# Altium schematic symbol library PCB_Footprint.SchLib: 121 symbols
Pins are listed as number, name and electrical type; pins without a type are passive.

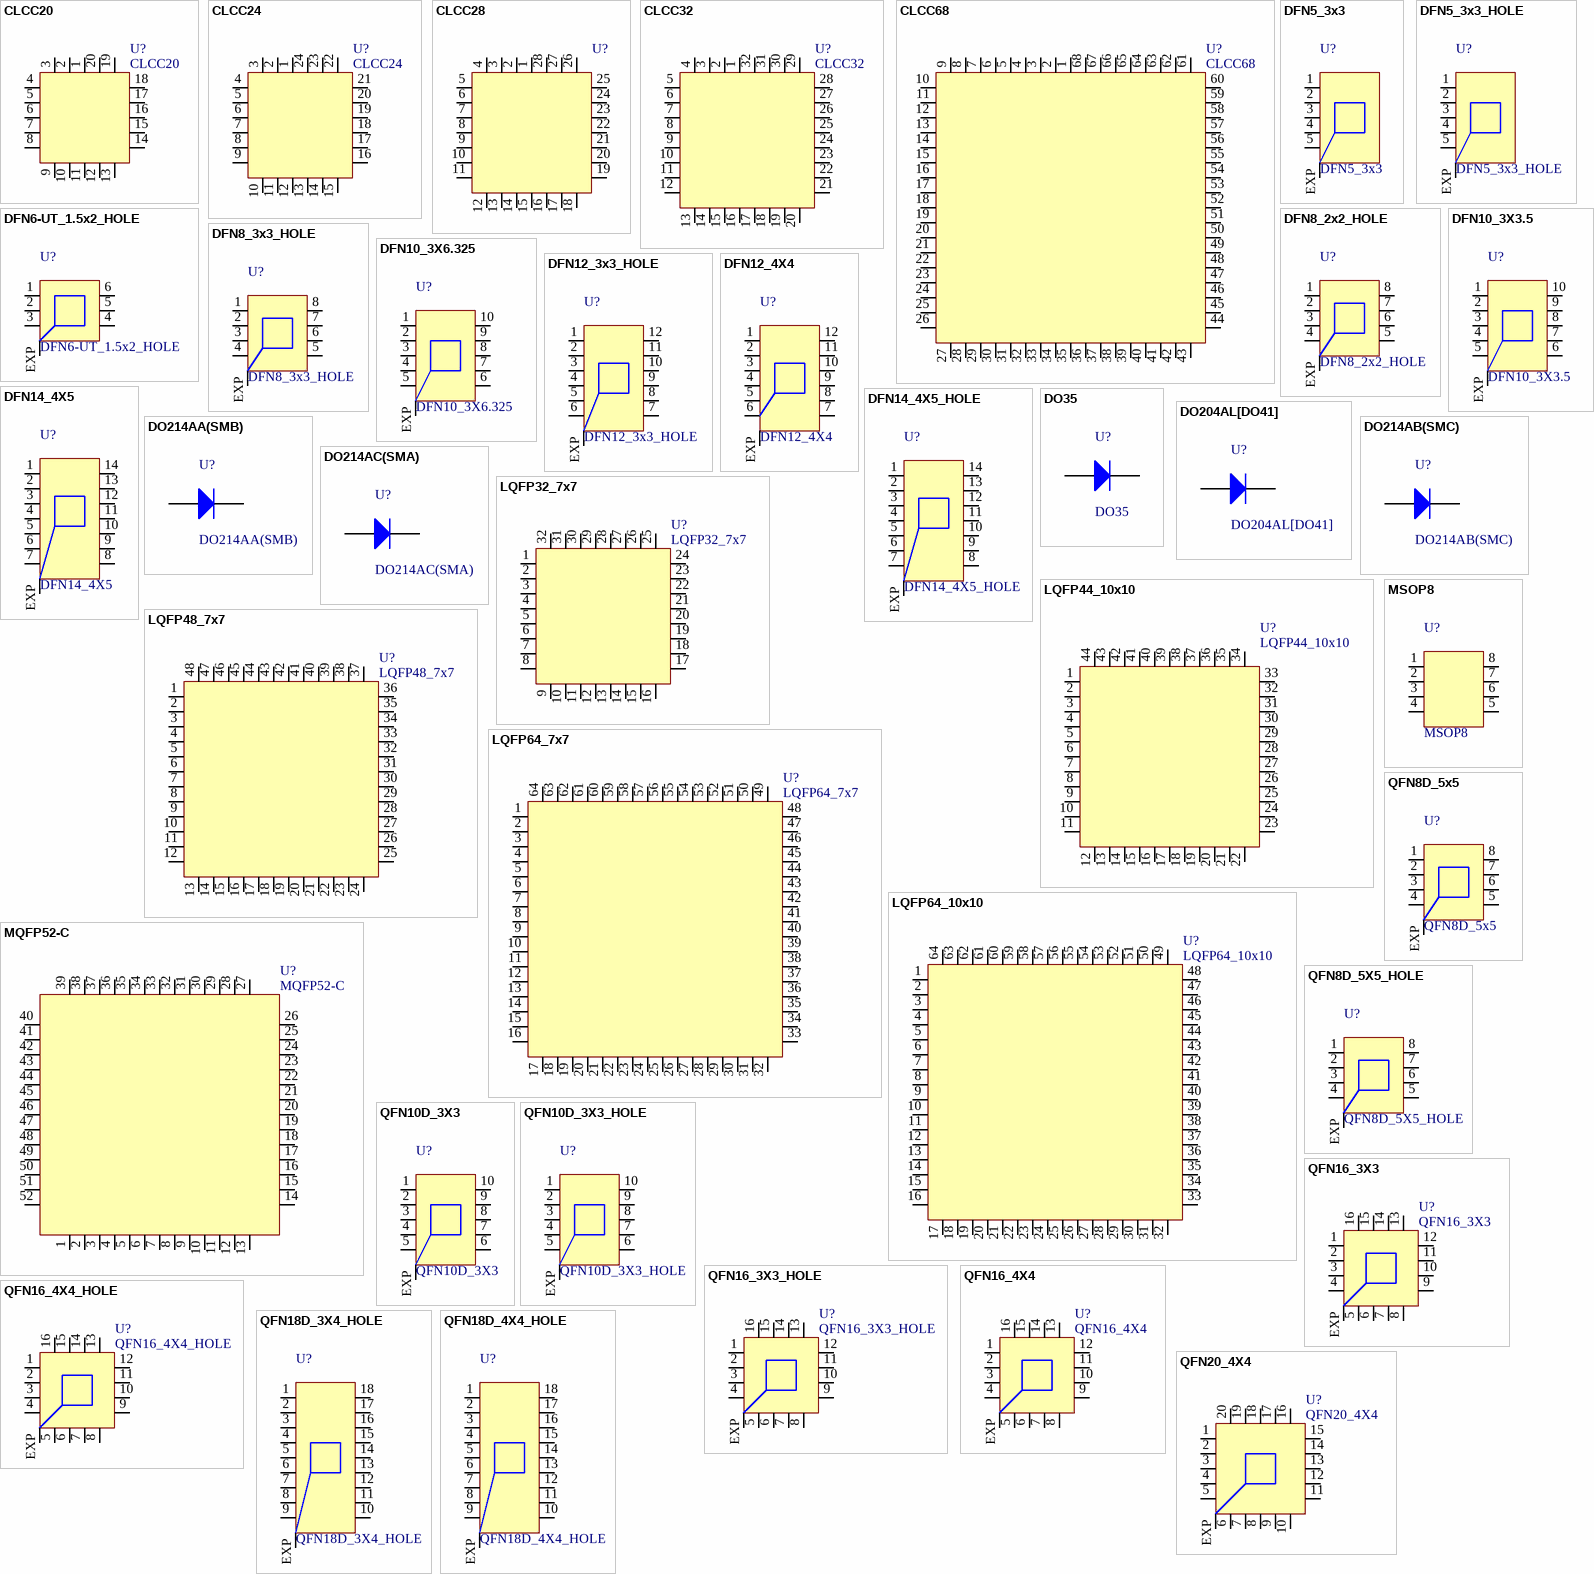
[diagram p0: symbols CLCC20 to QFN20_4X4]

## CLCC20
designator U?
Leadless Chip Carrier, 20-Leads, Body 8.89x8.89mm, Pitch 1.27mm, IPC Low Density
footprint LCC127P889X889X152-20 (Leadless Chip Carrier, 20-Leads, Body 8.89x8.89mm, Pitch 1.27mm, IPC Low Density)
pins: 1, 2, 3, 4, 5, 6, 7, 8, 9, 10, 11, 12, 13, 14, 15, 16, 17, 18, 19, 20

## CLCC24
designator U?
Leadless Chip Carrier, 24-Leads, Body 10.16x10.16mm, Pitch 1.27mm, IPC Low Density
footprint LCC127P1016X1016X152-24 (Leadless Chip Carrier, 24-Leads, Body 10.16x10.16mm, Pitch 1.27mm, IPC Low Density)
pins: 1, 2, 3, 4, 5, 6, 7, 8, 9, 10, 11, 12, 13, 14, 15, 16, 17, 18, 19, 20, 21, 22, 23, 24

## CLCC28
designator U?  (value not drawn)
Leadless Chip Carrier, 28-Leads, Body 11.68x11.68mm, Pitch 1.27mm, IPC Low Density
footprint LCC102P826X826X165-28N (LCC, 28-Pins, Body 8.26x8.26mmx1.65mm, Pitch 1.02mm, IPC Medium Density)
pins: 1, 2, 3, 4, 5, 6, 7, 8, 9, 10, 11, 12, 13, 14, 15, 16, 17, 18, 19, 20, 21, 22, 23, 24, 25, 26, 27, 28

## CLCC32
designator U?
Leadless Chip Carrier, 32-Leads, Body 10.67x10.67mm, Pitch 1.02mm, IPC Low Density
footprint LCC102P1067X1067X215-32 (Leadless Chip Carrier, 32-Leads, Body 10.67x10.67mm, Pitch 1.02mm, IPC Low Density)
pins: 1, 2, 3, 4, 5, 6, 7, 8, 9, 10, 11, 12, 13, 14, 15, 16, 17, 18, 19, 20, 21, 22, 23, 24, 25, 26, 27, 28, 29, 30, 31, 32

## CLCC68
designator U?
Leadless Chip Carrier, 68-Leads, Body 24.1x24.1mm, Pitch 1.27mm, IPC Low Density
footprint LCC127P2410X2410X203-68 (Leadless Chip Carrier, 68-Leads, Body 24.1x24.1mm, Pitch 1.27mm, IPC Low Density)
pins: 1, 2, 3, 4, 5, 6, 7, 8, 9, 10, 11, 12, 13, 14, 15, 16, 17, 18, 19, 20, 21, 22, 23, 24, 25, 26, 27, 28, 29, 30, 31, 32, 33, 34, 35, 36, 37, 38, 39, 40, 41, 42, 43, 44, 45, 46, 47, 48, 49, 50, 51, 52, 53, 54, 55, 56, 57, 58, 59, 60, 61, 62, 63, 64, 65, 66, 67, 68

## DFN5_3x3
designator U?
DFN, 5-Leads, Body 3x3x0.95mm, Pitch 0.5mm, Hole in exposed pad
footprint DFN50P300X300x95-5 (DFN, 5-Leads, Body 3x3x0.95mm, Pitch 0.5mm)
pins: 1, 2, 3, 4, 5, EXP

## DFN5_3x3_HOLE
designator U?
DFN, 5-Leads, Body 3x3x0.95mm, Pitch 0.5mm, Hole in exposed pad
footprint DFN50P300X300x95-5_HOLE (DFN, 5-Leads, Body 3x3x0.95mm, Pitch 0.5mm, Hole in exposed pad)
pins: 1, 2, 3, 4, 5, EXP

## DFN6-UT_1.5x2_HOLE
designator U?
DFN, 6-Leads, Body 1.5x2x0.43mm, Pitch 0.5mm, Hole in exposed pad
footprint DFN50P150X200X43-6_HOLE (DFN, 6-Leads, Body 1.5x2x0.43mm, Pitch 0.5mm, Hole in exposed pad)
pins: 1, 2, 3, 4, 5, 6, EXP

## DFN8_2x2_HOLE
designator U?
DFN, 8-Leads, Body 2x2x0.76mm, Pitch 0.5mm, Hole in exposed pad
footprint DFN50P200X200x76-8_HOLE (DFN, 8-Leads, Body 2x2x0.76mm, Pitch 0.5mm, Hole in exposed pad)
pins: 1, 2, 3, 4, 5, 6, 7, 8, EXP

## DFN8_3x3_HOLE
designator U?
DFN, 8-Leads, Body 3x3x0.75mm, Pitch 0.5mm, Hole in exposed pad
footprint DFN50P300X300x75-8_HOLE (DFN, 8-Leads, Body 3x3x0.75mm, Pitch 0.5mm, Hole in exposed pad)
pins: 1, 2, 3, 4, 5, 6, 7, 8, EXP

## DFN10_3X3.5
designator U?
DFN, 2x5-Leads, Body 3x6.325x0.95mm, Pitch 0.5mm
footprint DFN55P300X350x90-10 (DFN, 10-Leads, Body 3x3.5x0.9mm, Pitch 0.55mm)
pins: 1, 2, 3, 4, 5, 6, 7, 8, 9, 10, EXP

## DFN10_3X6.325
designator U?
DFN, 2x5-Leads, Body 3x6.325x0.95mm, Pitch 0.5mm
footprint DFN50P300X632x95-10 (DFN, 2x5-Leads, Body 3x6.325x0.95mm, Pitch 0.5mm)
pins: 1, 2, 3, 4, 5, 6, 7, 8, 9, 10, EXP

## DFN12_3x3_HOLE
designator U?
DFN, 12-Leads, Body 3.0x3x0.75mm, Pitch 0.45mm, Hole in exposed pad
footprint DFN45P300X300X75-12_HOLE (DFN, 12-Leads, Body 3.0x3x0.75mm, Pitch 0.45mm, Hole in exposed pad)
pins: 1, 2, 3, 4, 5, 6, 7, 8, 9, 10, 11, 12, EXP

## DFN12_4X4
designator U?
QFN, 12-Leads, dual, Body 4x4x0.9mm, Pitch 0.5mm
footprint DFN50P400X400X90-12 (QFN, 12-Leads, dual, Body 4x4x0.9mm, Pitch 0.5mm)
pins: 1, 2, 3, 4, 5, 6, 7, 8, 9, 10, 11, 12, EXP

## DFN14_4X5
designator U?
QFN, 14-Leads, dual, Body 4x5x2.55mm, Pitch 0.5mm
footprint DFN50P400X500X255-14 (QFN, 14-Leads, dual, Body 4x5x2.55mm, Pitch 0.5mm)
pins: 1, 2, 3, 4, 5, 6, 7, 8, 9, 10, 11, 12, 13, 14, EXP

## DFN14_4X5_HOLE
designator U?
QFN, 14-Leads, dual, Body 4x5x2.55mm, Pitch 0.5mm, Hole in exposed pad
footprint DFN50P400X500X255-14_HOLE (QFN, 14-Leads, dual, Body 4x5x2.55mm, Pitch 0.5mm, Hole in exposed pad)
pins: 1, 2, 3, 4, 5, 6, 7, 8, 9, 10, 11, 12, 13, 14, EXP

## DO35
designator U?
Diode, Axial; Body 3.9 x 1.9 mm (LxDia. max), Lead Dia. 0.53 mm (max)
footprint DO35 (Diode, Axial; Body 3.9 x 1.9 mm (LxDia. max), Lead Dia. 0.53 mm (max))
pins: 1 K, 2 A

## DO204AL[DO41]
designator U?
Diode, Axial; Body 5.2x2.7mm (LxDia. max), Lead Dia. 0.86 mm (max)
footprint DO204AL[DO41] (Diode, Axial; Body 5.2 x 2.7 mm (LxDia. max), Lead Dia. 0.86 mm (max))
pins: 1 K, 2 A

## DO214AA(SMB)
designator U?
DO-214-AA/SMB; 2 C-Bend Leads; Body 5.3x3.6mm, inc. leads (LxW)
footprint DO214AA(SMB) (DO-214-AA/SMB; 2 C-Bend Leads; Body 5.3 x 3.6 mm, inc. leads (LxW))
pins: 1 K, 2 A

## DO214AB(SMC)
designator U?
DO-214-AB/SMC; 2 C-Bend Leads; Body  8.0 x 6.2 mm, inc. leads (LxW)
footprint DO214AB(SMC) (DO-214-AB/SMC; 2 C-Bend Leads; Body  8.0 x 6.2 mm, inc. leads (LxW))
pins: 1 K, 2 A

## DO214AC(SMA)
designator U?
DO-214-AC/SMA; 2 C-Bend Leads; Body 5.0 x 2.7 mm, inc. leads (LxW)
footprint DO214AC(SMA) (DO-214-AC/SMA; 2 C-Bend Leads; Body 5.0 x 2.7 mm, inc. leads (LxW))
pins: 1 K, 2 A

## LQFP32_7x7
designator U?
Thin QFP, 32-Leads, Body 7x7mm, Pitch 0.8mm, IPC Low Density
footprint LQFP32_7x7 (Thin QFP, 32-Leads, Body 7x7mm, Pitch 0.8mm, IPC Low Density)
pins: 1, 2, 3, 4, 5, 6, 7, 8, 9, 10, 11, 12, 13, 14, 15, 16, 17, 18, 19, 20, 21, 22, 23, 24, 25, 26, 27, 28, 29, 30, 31, 32

## LQFP44_10x10
designator U?  (no BOM)
Thin QFP, 64-Leads, Body 10x10mm, Pitch 0.8mm, IPC Low Density
footprint LQFP44_10x10 (Thin QFP, 44-Leads, Body 10x10mm, Pitch 0.8mm, IPC Low Density)
pins: 1, 2, 3, 4, 5, 6, 7, 8, 9, 10, 11, 12, 13, 14, 15, 16, 17, 18, 19, 20, 21, 22, 23, 24, 25, 26, 27, 28, 29, 30, 31, 32, 33, 34, 35, 36, 37, 38, 39, 40, 41, 42, 43, 44

## LQFP48_7x7
designator U?
LQFP, 48-Leads, Body 7x7mm, Pitch 0.5mm, IPC Low Density
footprint LQFP48_7x7 (LQFP, 48-Leads, Body 7x7mm, Pitch 0.5mm, IPC Low Density)
pins: 1, 2, 3, 4, 5, 6, 7, 8, 9, 10, 11, 12, 13, 14, 15, 16, 17, 18, 19, 20, 21, 22, 23, 24, 25, 26, 27, 28, 29, 30, 31, 32, 33, 34, 35, 36, 37, 38, 39, 40, 41, 42, 43, 44, 45, 46, 47, 48

## LQFP64_7x7
designator U?
Thin QFP, 64-Leads, Body 7x7mm, Pitch 0.4mm, IPC Low Density
footprint LQFP64_7x7 (Thin QFP, 64-Leads, Body 7x7mm, Pitch 0.4mm, IPC Low Density)
pins: 1, 2, 3, 4, 5, 6, 7, 8, 9, 10, 11, 12, 13, 14, 15, 16, 17, 18, 19, 20, 21, 22, 23, 24, 25, 26, 27, 28, 29, 30, 31, 32, 33, 34, 35, 36, 37, 38, 39, 40, 41, 42, 43, 44, 45, 46, 47, 48, 49, 50, 51, 52, 53, 54, 55, 56, 57, 58, 59, 60, 61, 62, 63, 64

## LQFP64_10x10
designator U?
Thin QFP, 64-Leads, Body 10x10mm, Pitch 0.5mm, IPC Low Density
footprint LQFP64_10x10 (Thin QFP, 64-Leads, Body 10x10mm, Pitch 0.5mm, IPC Low Density)
pins: 1, 2, 3, 4, 5, 6, 7, 8, 9, 10, 11, 12, 13, 14, 15, 16, 17, 18, 19, 20, 21, 22, 23, 24, 25, 26, 27, 28, 29, 30, 31, 32, 33, 34, 35, 36, 37, 38, 39, 40, 41, 42, 43, 44, 45, 46, 47, 48, 49, 50, 51, 52, 53, 54, 55, 56, 57, 58, 59, 60, 61, 62, 63, 64

## MQFP52-C
designator U?
MQFP, 52-Leads, with optical area, Body 14x14x2.67mm, Pitch 1.0mm
footprint MQFP52-C (MQFP, 52-Leads, with optical area, Body 14x14x2.67mm, Pitch 1.0mm)
pins: 1, 2, 3, 4, 5, 6, 7, 8, 9, 10, 11, 12, 13, 14, 15, 16, 17, 18, 19, 20, 21, 22, 23, 24, 25, 26, 27, 28, 29, 30, 31, 32, 33, 34, 35, 36, 37, 38, 39, 40, 41, 42, 43, 44, 45, 46, 47, 48, 49, 50, 51, 52

## MSOP8
designator U?
Shrink Small Outline; 8 Leads; Body Width 3mm; Pitch 0.65 mm
footprint MSOP65P590-8 (Shrink Small Outline; 8 Leads; Body Width 3 mm; Pitch 0.65 mm)
pins: 1, 2, 3, 4, 5, 6, 7, 8

## QFN8D_5x5
designator U?
QFN, 8-Leads, dual (depopulated 16pin quad), Body 5x5x0.9mm, Pitch 0.8mm
footprint QFND80P500X500X90-8 (QFN, 8-Leads, dual (depopulated 16pin quad), Body 5x5x0.9mm, Pitch 0.8mm)
pins: 1, 2, 3, 4, 5, 6, 7, 8, EXP

## QFN8D_5X5_HOLE
designator U?
QFN, 8-Leads, dual (depopulated 16pin quad), Body 5x5x0.9mm, Pitch 0.8mm, Hole in exposed pad
footprint QFND80P500X500X90-8_HOLE (QFN, 8-Leads, dual (depopulated 16pin quad), Body 5x5x0.9mm, Pitch 0.8mm, Hole in exposed pad)
pins: 1, 2, 3, 4, 5, 6, 7, 8, EXP

## QFN10D_3X3
designator U?
QFN, 10-Leads, dual, Body 3x3x0.65mm, Pitch 0.5mm
footprint QFND50P300X300x65-10 (QFN, 10-Leads, dual, Body 3x3x0.65mm, Pitch 0.5mm, Hole in exposed pad)
pins: 1, 2, 3, 4, 5, 6, 7, 8, 9, 10, EXP

## QFN10D_3X3_HOLE
designator U?
QFN, 10-Leads, dual, Body 3x3x0.65mm, Pitch 0.5mm, Hole in exposed pad
footprint QFND50P300X300x65-10_HOLE (QFN, 10-Leads, dual, Body 3x3x0.65mm, Pitch 0.5mm, Hole in exposed pad)
pins: 1, 2, 3, 4, 5, 6, 7, 8, 9, 10, EXP

## QFN16_3X3
designator U?
QFN, 16-Leads, Body 3x3x0.9mm, Pitch 0.5mm
footprint QFN50P300X300x100-16 (QFN, 16-Leads, quad, Body 3x3x1mm, Pitch 0.5mm, Hole in exposed pad)
pins: 1, 2, 3, 4, 5, 6, 7, 8, 9, 10, 11, 12, 13, 14, 15, 16, EXP

## QFN16_3X3_HOLE
designator U?
QFN, 16-Leads, Body 3x3x0.9mm, Pitch 0.5mm, Hole in exposed pad
footprint QFN50P300X300x100-16_HOLE (QFN, 16-Leads, quad, Body 3x3x1mm, Pitch 0.5mm, Hole in exposed pad)
pins: 1, 2, 3, 4, 5, 6, 7, 8, 9, 10, 11, 12, 13, 14, 15, 16, EXP

## QFN16_4X4
designator U?
QFN, 16-Leads, Body 4x4x0.9mm, Pitch 0.65mm
footprint QFN65P400X400x90-16 (QFN, 16-Leads, Body 4x4x0.9mm, Pitch 0.65mm)
pins: 1, 2, 3, 4, 5, 6, 7, 8, 9, 10, 11, 12, 13, 14, 15, 16, EXP

## QFN16_4X4_HOLE
designator U?
QFN, 16-Leads, Body 4x4x0.9mm, Pitch 0.65mm, Hole in exposed pad
footprint QFN65P400X400x90-16_HOLE (QFN, 16-Leads, Body 4x4x0.9mm, Pitch 0.65mm, Hole in exposed pad)
pins: 1, 2, 3, 4, 5, 6, 7, 8, 9, 10, 11, 12, 13, 14, 15, 16, EXP

## QFN18D_3X4_HOLE
designator U?
QFN, 18-Leads, dual, Body 3x4x0.9mm, Pitch 0.4mm, Hole in exposed pad
footprint QFND40P300X400x90-18_HOLE (QFN, 18-Leads, dual, Body 3x4x0.9mm, Pitch 0.4mm, Hole in exposed pad)
pins: 1, 2, 3, 4, 5, 6, 7, 8, 9, 10, 11, 12, 13, 14, 15, 16, 17, 18, EXP

## QFN18D_4X4_HOLE
designator U?
QFN, 18-Leads, dual, Body 4x4x0.97mm, Pitch 0.4mm, Hole in exposed pad
footprint QFND40P400X400x97-18_HOLE (QFN, 18-Leads, dual, Body 4x4x0.97mm, Pitch 0.4mm, Hole in exposed pad)
pins: 1, 2, 3, 4, 5, 6, 7, 8, 9, 10, 11, 12, 13, 14, 15, 16, 17, 18, EXP

## QFN20_4X4
designator U?
QFN, 20-Leads, Body 4x4x0.9mm, Pitch 0.5mm
footprint QFN50P400X400x90-20 (QFN, 20-Leads, Body 4x4x0.9mm, Pitch 0.5mm)
pins: 1, 2, 3, 4, 5, 6, 7, 8, 9, 10, 11, 12, 13, 14, 15, 16, 17, 18, 19, 20, EXP

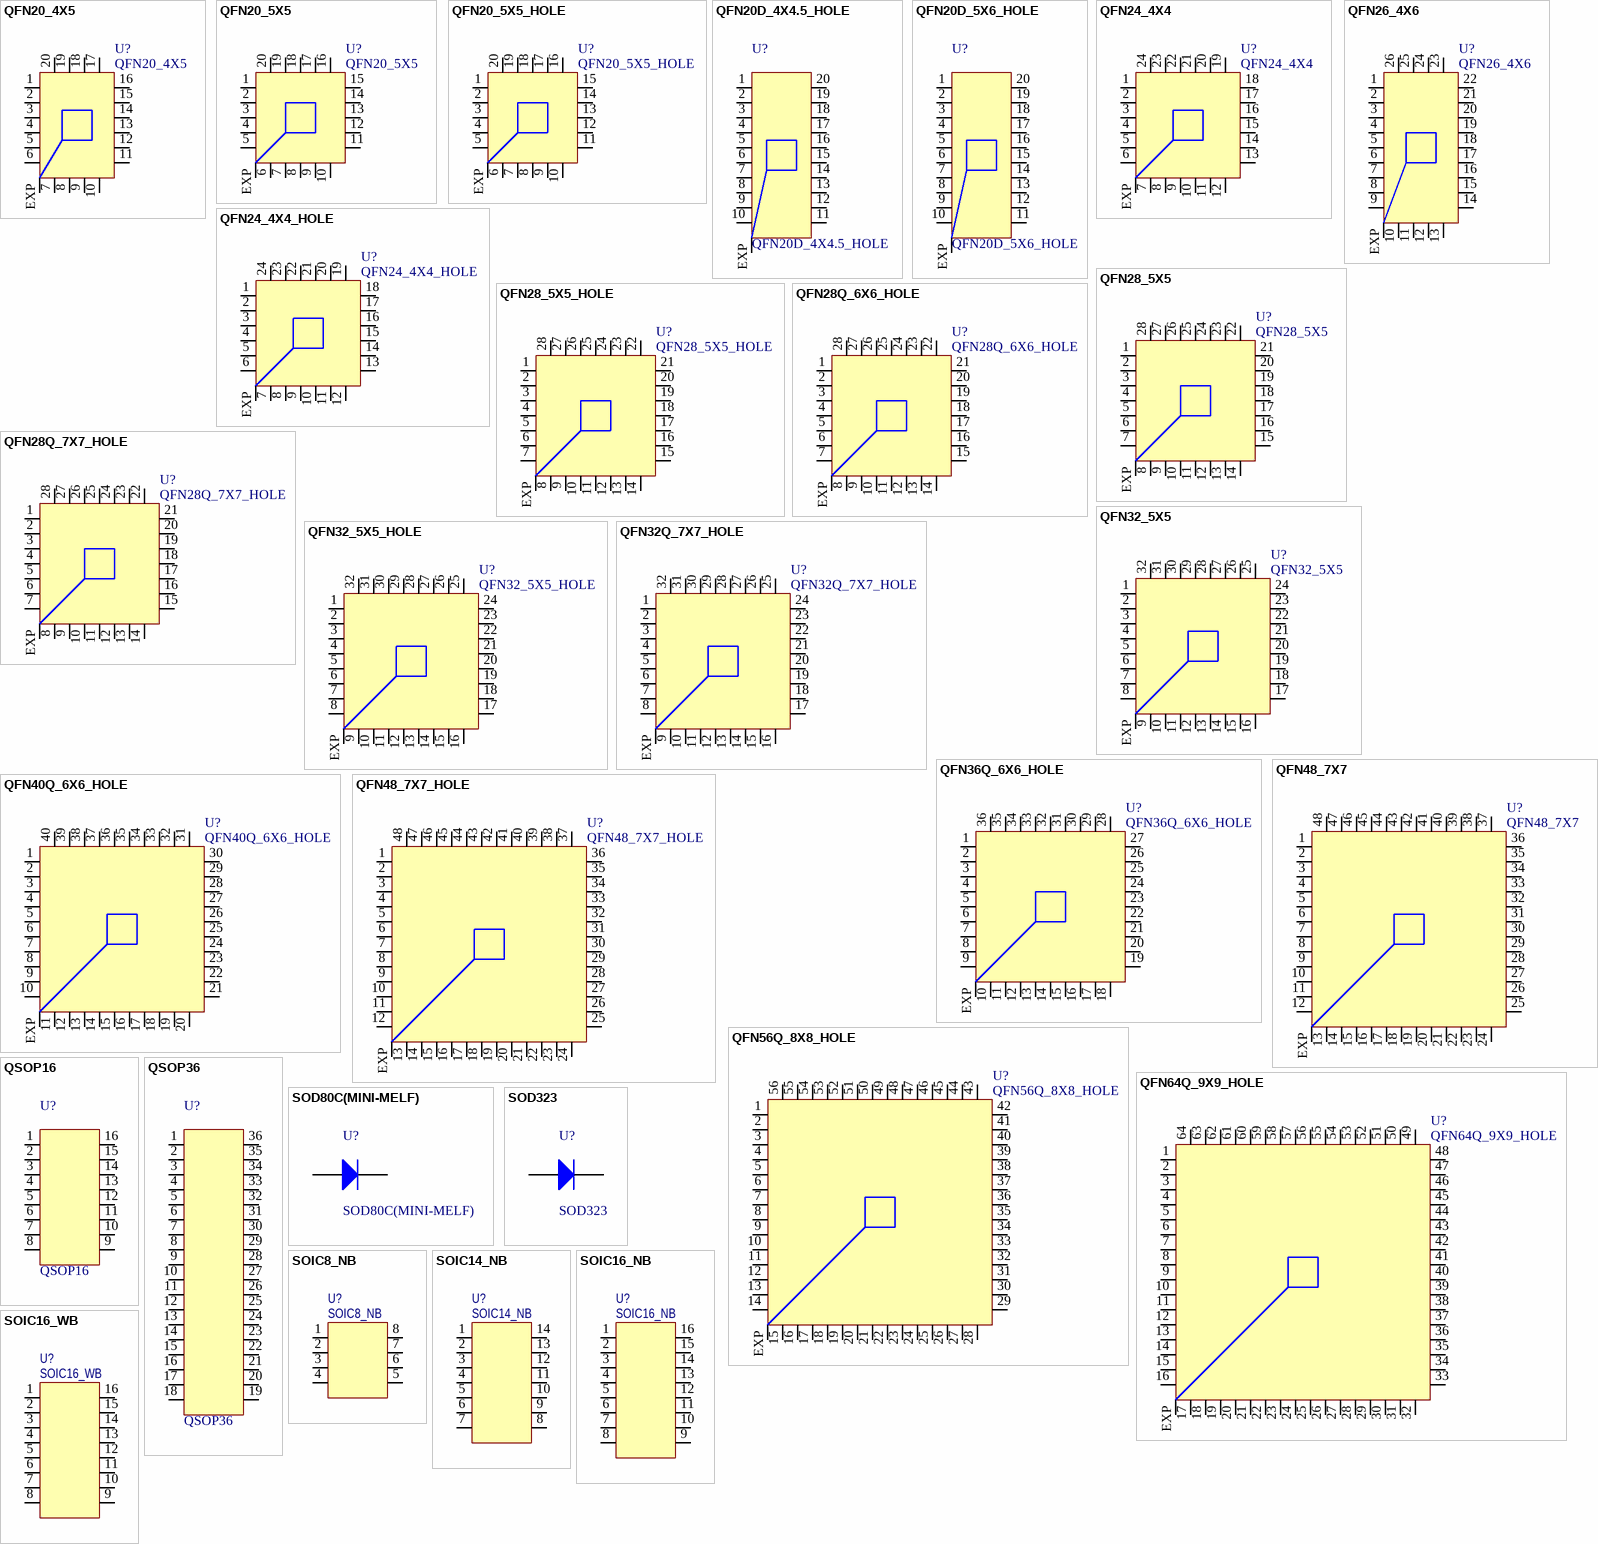
[diagram p1: symbols QFN20_4X5 to SOIC16_WB]

## QFN20_4X5
designator U?
QFN, 20-Leads, Body 4x5x0.85mm, Pitch 0.5mm
footprint QFN50P400X500x85-20 (QFN, 20-Leads, Body 4x5x0.9mm, Pitch 0.5mm)
pins: 1, 2, 3, 4, 5, 6, 7, 8, 9, 10, 11, 12, 13, 14, 15, 16, 17, 18, 19, 20, EXP

## QFN20_5X5
designator U?
QFN, 20-Leads, quad, Body 5x5x0.9mm, Pitch 0.65mm
footprint QFN65P500X500x90-20 (QFN, 20-Leads, quad, Body 5x5x0.9mm, Pitch 0.65mm)
pins: 1, 2, 3, 4, 5, 6, 7, 8, 9, 10, 11, 12, 13, 14, 15, 16, 17, 18, 19, 20, EXP

## QFN20_5X5_HOLE
designator U?
QFN, 20-Leads, quad, Body 5x5x0.9mm, Pitch 0.65mm, Hole in exposed pad
footprint QFN65P500X500x90-20_HOLE (QFN, 20-Leads, quad, Body 5x5x0.9mm, Pitch 0.65mm, Hole in exposed pad)
pins: 1, 2, 3, 4, 5, 6, 7, 8, 9, 10, 11, 12, 13, 14, 15, 16, 17, 18, 19, 20, EXP

## QFN20D_4X4.5_HOLE
designator U?
QFN, 20-Leads, dual, Body 4x4.5x0.97mm, Pitch 0.4mm, Hole in exposed pad
footprint QFND40P400X450x97-20_HOLE (QFN, 20-Leads, dual, Body 4x4.5x0.97mm, Pitch 0.4mm, Hole in exposed pad)
pins: 1, 2, 3, 4, 5, 6, 7, 8, 9, 10, 11, 12, 13, 14, 15, 16, 17, 18, 19, 20, EXP

## QFN20D_5X6_HOLE
designator U?
QFN, 20-Leads, dual, Body 5x6x0.9mm, Pitch 0.5mm, Hole in exposed pad
footprint QFND50P500X600x90-20_HOLE (QFN, 20-Leads, dual, Body 5x6x0.9mm, Pitch 0.5mm, Hole in exposed pad)
pins: 1, 2, 3, 4, 5, 6, 7, 8, 9, 10, 11, 12, 13, 14, 15, 16, 17, 18, 19, 20, EXP

## QFN24_4X4
designator U?
QFN, 24-Leads, Body 4x4x0.9mm, Pitch 0.5mm
footprint QFN50P400X400x90-24 (QFN, 24-Leads, Body 4x4x0.9mm, Pitch 0.5mm)
pins: 1, 2, 3, 4, 5, 6, 7, 8, 9, 10, 11, 12, 13, 14, 15, 16, 17, 18, 19, 20, 21, 22, 23, 24, EXP

## QFN24_4X4_HOLE
designator U?
QFN, 24-Leads, Body 4x4x0.9mm, Pitch 0.5mm, Hole in exposed pad
footprint QFN50P400X400x90-24_HOLE (QFN, 24-Leads, Body 4x4x0.9mm, Pitch 0.5mm, Hole in exposed pad)
pins: 1, 2, 3, 4, 5, 6, 7, 8, 9, 10, 11, 12, 13, 14, 15, 16, 17, 18, 19, 20, 21, 22, 23, 24, EXP

## QFN26_4X6
designator U?
QFN, 26-Leads, quad, Body 4x6x0.9mm, Pitch 0.5mm
footprint QFNQ50P400X600x90-26 (QFN, 26-Leads, quad, Body 4x6x0.9mm, Pitch 0.5mm)
pins: 1, 2, 3, 4, 5, 6, 7, 8, 9, 10, 11, 12, 13, 14, 15, 16, 17, 18, 19, 20, 21, 22, 23, 24, 25, 26, EXP

## QFN28_5X5
designator U?
QFN, 28-Leads, quad, Body 5x5x0.9mm, Pitch 0.5mm
footprint QFN50P500X500x90-28 (QFN, 28-Leads, quad, Body 5x5x0.9mm, Pitch 0.5mm)
pins: 1, 2, 3, 4, 5, 6, 7, 8, 9, 10, 11, 12, 13, 14, 15, 16, 17, 18, 19, 20, 21, 22, 23, 24, 25, 26, 27, 28, EXP

## QFN28_5X5_HOLE
designator U?
QFN, 28-Leads, quad, Body 5x5x0.9mm, Pitch 0.5mm, Hole in exposed pad
footprint QFN50P500X500x90-28_HOLE (QFN, 28-Leads, quad, Body 5x5x0.9mm, Pitch 0.5mm, Hole in exposed pad)
pins: 1, 2, 3, 4, 5, 6, 7, 8, 9, 10, 11, 12, 13, 14, 15, 16, 17, 18, 19, 20, 21, 22, 23, 24, 25, 26, 27, 28, EXP

## QFN28Q_6X6_HOLE
designator U?
QFN, 28-Leads, quad, Body 6x6x0.9mm, Pitch 0.65mm, Hole in exposed pad
footprint QFNQ65P600X600x90-28_HOLE (QFN, 28-Leads, quad, Body 6x6x0.9mm, Pitch 0.65mm, Hole in exposed pad)
pins: 1, 2, 3, 4, 5, 6, 7, 8, 9, 10, 11, 12, 13, 14, 15, 16, 17, 18, 19, 20, 21, 22, 23, 24, 25, 26, 27, 28, EXP

## QFN28Q_7X7_HOLE
designator U?
QFN, 28-Leads, quad, Body 7x7x0.9mm, Pitch 0.8mm, Hole in exposed pad
footprint QFNQ80P700X700x90-28_HOLE (QFN, 28-Leads, quad, Body 7x7x0.9mm, Pitch 0.8mm, Hole in exposed pad)
pins: 1, 2, 3, 4, 5, 6, 7, 8, 9, 10, 11, 12, 13, 14, 15, 16, 17, 18, 19, 20, 21, 22, 23, 24, 25, 26, 27, 28, EXP

## QFN32_5X5
designator U?
QFN, 32-Leads, quad, Body 5x5x0.9mm, Pitch 0.5mm
footprint QFN50P500X500x90-32 (QFN, 32-Leads, quad, Body 5x5x0.9mm, Pitch 0.5mm)
pins: 1, 2, 3, 4, 5, 6, 7, 8, 9, 10, 11, 12, 13, 14, 15, 16, 17, 18, 19, 20, 21, 22, 23, 24, 25, 26, 27, 28, 29, 30, 31, 32, EXP

## QFN32_5X5_HOLE
designator U?
QFN, 32-Leads, quad, Body 5x5x0.9mm, Pitch 0.5mm, Hole in exposed pad
footprint QFN50P500X500x90-32_HOLE (QFN, 32-Leads, quad, Body 5x5x0.9mm, Pitch 0.5mm, Hole in exposed pad)
pins: 1, 2, 3, 4, 5, 6, 7, 8, 9, 10, 11, 12, 13, 14, 15, 16, 17, 18, 19, 20, 21, 22, 23, 24, 25, 26, 27, 28, 29, 30, 31, 32, EXP

## QFN32Q_7X7_HOLE
designator U?
QFN, 32-Leads, quad, Body 7x7x0.9mm, Pitch 0.65mm, Hole in exposed pad
footprint QFNQ65P700X700x90-32_HOLE (QFN, 32-Leads, quad, Body 7x7x0.9mm, Pitch 0.65mm, Hole in exposed pad)
pins: 1, 2, 3, 4, 5, 6, 7, 8, 9, 10, 11, 12, 13, 14, 15, 16, 17, 18, 19, 20, 21, 22, 23, 24, 25, 26, 27, 28, 29, 30, 31, 32, EXP

## QFN36Q_6X6_HOLE
designator U?
QFN, 36-Leads, quad, Body 6x6x0.9mm, Pitch 0.5mm, Hole in exposed pad
footprint QFNQ50P600X600x90-36_HOLE (QFN, 36-Leads, quad, Body 6x6x0.9mm, Pitch 0.5mm, Hole in exposed pad)
pins: 1, 2, 3, 4, 5, 6, 7, 8, 9, 10, 11, 12, 13, 14, 15, 16, 17, 18, 19, 20, 21, 22, 23, 24, 25, 26, 27, 28, 29, 30, 31, 32, 33, 34, 35, 36, EXP

## QFN40Q_6X6_HOLE
designator U?
QFN, 40-Leads, quad, Body 6x6x0.9mm, Pitch 0.5mm, Hole in exposed pad
footprint QFNQ50P600X600x90-40_HOLE (QFN, 40-Leads, quad, Body 6x6x0.9mm, Pitch 0.5mm, Hole in exposed pad)
pins: 1, 2, 3, 4, 5, 6, 7, 8, 9, 10, 11, 12, 13, 14, 15, 16, 17, 18, 19, 20, 21, 22, 23, 24, 25, 26, 27, 28, 29, 30, 31, 32, 33, 34, 35, 36, 37, 38, 39, 40, EXP

## QFN48_7X7
designator U?
QFN, 48-Leads, quad, Body 7x7x0.9mm, Pitch 0.5mm
footprint QFN50P700X700x90-48 (QFN, 48-Leads, quad, Body 7x7x0.9mm, Pitch 0.5mm)
pins: 1, 2, 3, 4, 5, 6, 7, 8, 9, 10, 11, 12, 13, 14, 15, 16, 17, 18, 19, 20, 21, 22, 23, 24, 25, 26, 27, 28, 29, 30, 31, 32, 33, 34, 35, 36, 37, 38, 39, 40, 41, 42, 43, 44, 45, 46, 47, 48, EXP

## QFN48_7X7_HOLE
designator U?
QFN, 48-Leads, quad, Body 7x7x0.9mm, Pitch 0.5mm, Hole in exposed pad
footprint QFN50P700X700x90-48_HOLE (QFN, 48-Leads, quad, Body 7x7x0.9mm, Pitch 0.5mm, Hole in exposed pad)
pins: 1, 2, 3, 4, 5, 6, 7, 8, 9, 10, 11, 12, 13, 14, 15, 16, 17, 18, 19, 20, 21, 22, 23, 24, 25, 26, 27, 28, 29, 30, 31, 32, 33, 34, 35, 36, 37, 38, 39, 40, 41, 42, 43, 44, 45, 46, 47, 48, EXP

## QFN56Q_8X8_HOLE
designator U?
QFN, 56-Leads, quad, Body 8x8x0.9mm, Pitch 0.5mm, Hole in exposed pad
footprint QFNQ50P800X800x90-56_HOLE (QFN, 56-Leads, quad, Body 8x8x0.9mm, Pitch 0.5mm, Hole in exposed pad)
pins: 1, 2, 3, 4, 5, 6, 7, 8, 9, 10, 11, 12, 13, 14, 15, 16, 17, 18, 19, 20, 21, 22, 23, 24, 25, 26, 27, 28, 29, 30, 31, 32, 33, 34, 35, 36, 37, 38, 39, 40, 41, 42, 43, 44, 45, 46, 47, 48, 49, 50, 51, 52, 53, 54, 55, 56, EXP

## QFN64Q_9X9_HOLE
designator U?
QFN, 54-Leads, quad, Body 9x9x0.9mm, Pitch 0.5mm, Hole in exposed pad
footprint QFNQ50P900X900x90-64_HOLE (QFN, 54-Leads, quad, Body 9x9x0.9mm, Pitch 0.5mm, Hole in exposed pad)
pins: 1, 2, 3, 4, 5, 6, 7, 8, 9, 10, 11, 12, 13, 14, 15, 16, 17, 18, 19, 20, 21, 22, 23, 24, 25, 26, 27, 28, 29, 30, 31, 32, 33, 34, 35, 36, 37, 38, 39, 40, 41, 42, 43, 44, 45, 46, 47, 48, 49, 50, 51, 52, 53, 54, 55, 56, 57, 58, 59, 60, 61, 62, 63, 64, EXP

## QSOP16
designator U?
QSOP; 16 Leads; Body Width 3.9 mm; Pitch 0.635 mm
footprint QSOP635P600-16 (QSOP; 16 Leads; Body Width 3.9 mm; Pitch 0.635 mm)
pins: 1, 2, 3, 4, 5, 6, 7, 8, 9, 10, 11, 12, 13, 14, 15, 16

## QSOP36
designator U?
QSOP; 36 Leads; Body Width 7.5 mm; Pitch 0.8 mm
footprint QSOP80P1031-36 (QSOP; 36 Leads; Body Width 7.5 mm; Pitch 0.8 mm)
pins: 1, 2, 3, 4, 5, 6, 7, 8, 9, 10, 11, 12, 13, 14, 15, 16, 17, 18, 19, 20, 21, 22, 23, 24, 25, 26, 27, 28, 29, 30, 31, 32, 33, 34, 35, 36

## SOD80C(MINI-MELF)
designator U?
Metal Electrode Face (MELF) Diode; Body 3.5 x 1.6 mm (LxDia)
footprint SOD80C(MINI-MELF) (Metal Electrode Face (MELF) Diode; Body 3.5 x 1.6 mm (LxDia))
pins: 1 K, 2 A

## SOD323
designator U?
SOD-323/SC-76; 2 Leads; Body 1.7 x 1.3 mm, (LxW)
footprint SOD323 (SOD-323/SC-76; 2 Leads; Body 1.7 x 1.3 mm, (LxW))
pins: 1 K, 2 A

## SOIC8_NB
designator U?
SOIC, 8-Leads, Body 3.9x4.9mm (narrow body), Pitch 1.27mm, IPC Low Density
footprint SOIC127P600X175-8
pins: 1, 2, 3, 4, 5, 6, 7, 8

## SOIC14_NB
designator U?
SOIC, 14-Leads, Body 3.9x8.65mm (narrow body), Pitch 1.27mm, IPC Low Density
footprint SOIC127P600-14_M (SOIC, 14-Leads, Body 3.9x8.65mm (narrow body), Pitch 1.27mm, IPC Low Density)
pins: 1, 2, 3, 4, 5, 6, 7, 8, 9, 10, 11, 12, 13, 14

## SOIC16_NB
designator U?
SOIC, 16-Leads, Body 3.9x9.9mm (narrow body), Pitch 1.27mm, IPC Low Density
footprint SOIC127P600-16_M (SOIC, 16-Leads, Body 4.9x3.9mm, Pitch 1.27mm, IPC Low Density)
pins: 1, 2, 3, 4, 5, 6, 7, 8, 9, 10, 11, 12, 13, 14, 15, 16

## SOIC16_WB
designator U?
SOIC, 16-Leads, Body 7.5x10.3mm (wide body), Pitch 1.27mm, IPC Low Density
footprint SOIC127P1030-16_M (SOIC, 16-Leads, Body 10.3x7.5mm, Pitch 1.27mm, IPC Low Density)
pins: 1, 2, 3, 4, 5, 6, 7, 8, 9, 10, 11, 12, 13, 14, 15, 16

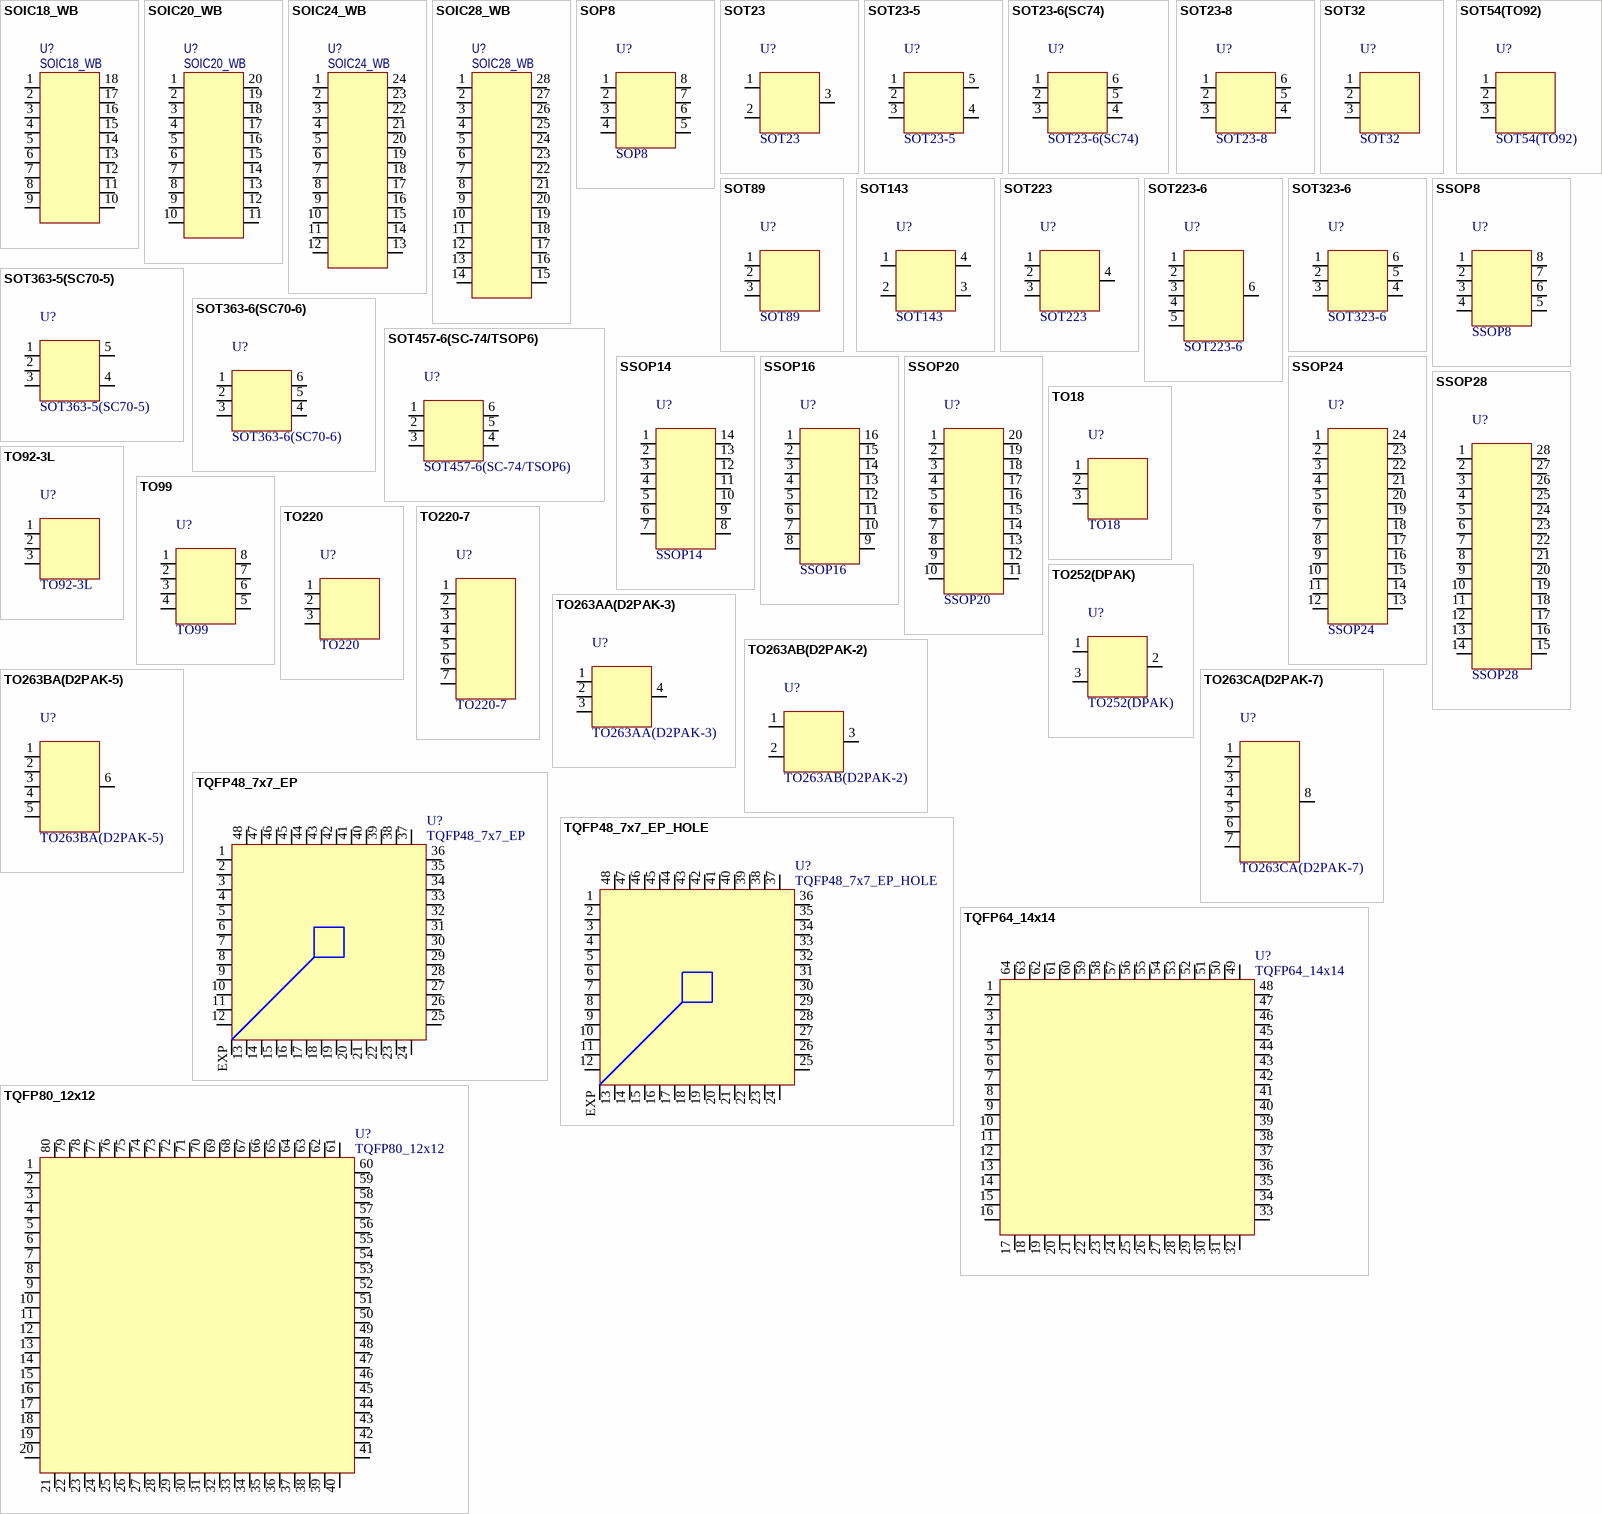
[diagram p2: symbols SOIC18_WB to TQFP80_12x12]

## SOIC18_WB
designator U?
SOIC, 18-Leads, Body 7.5x11.55mm (wide body), Pitch 1.27mm, IPC Low Density
footprint SOIC127P1030-18_M (SOIC, 18-Leads, Body 7.5x11.55mm (wide body), Pitch 1.27mm, IPC Low Density)
pins: 1, 2, 3, 4, 5, 6, 7, 8, 9, 10, 11, 12, 13, 14, 15, 16, 17, 18

## SOIC20_WB
designator U?
SOIC, 20-Leads, Body 7.5x12.8mm (wide body), Pitch 1.27mm, IPC Low Density
footprint SOIC127P1030-20_M (SOIC, 20-Leads, Body 12.8x7.5mm, Pitch 1.27mm, IPC Low Density)
pins: 1, 2, 3, 4, 5, 6, 7, 8, 9, 10, 11, 12, 13, 14, 15, 16, 17, 18, 19, 20

## SOIC24_WB
designator U?
SOIC, 24-Leads, Body 7.5x15.4mm (wide body), Pitch 1.27mm, IPC Low Density
footprint SOIC127P1030-24_M (SOIC, 24-Leads, Body 15.4x7.5mm, Pitch 1.27mm, IPC Low Density)
pins: 1, 2, 3, 4, 5, 6, 7, 8, 9, 10, 11, 12, 13, 14, 15, 16, 17, 18, 19, 20, 21, 22, 23, 24

## SOIC28_WB
designator U?
SOIC, 28-Leads, Body 7.5x17.9mm (wide body), Pitch 1.27mm, IPC Low Density
footprint SOIC127P1030-28_M (SOIC, 28-Leads, Body 17.9x7.5mm, Pitch 1.27mm, IPC Low Density)
pins: 1, 2, 3, 4, 5, 6, 7, 8, 9, 10, 11, 12, 13, 14, 15, 16, 17, 18, 19, 20, 21, 22, 23, 24, 25, 26, 27, 28

## SOP8
designator U?
SOP, 8-Leads, Body 9.5x6.62mm, Pitch 2.54mm, IPC Low Density
footprint SOP254P1040-8_M (SOP, 8-Leads, Body 9.5x6.62mm, Pitch 2.54mm, IPC Low Density)
pins: 1, 2, 3, 4, 5, 6, 7, 8

## SOT23
designator U?
SOT223,SOT-23; 3 Leads; Body 3.0 x 2.5 mm, inc. leads (LxW max)
footprint SOT23 (SOT-23; 3 Leads; Body 3.0 x 2.5 mm, inc. leads (LxW max))
pins: 1, 2, 3

## SOT23-5
designator U?
SOT-23; 5 Leads; Body 3.0 x 3.0 mm, inc. leads (LxW max)
footprint SOT23-5 (SOT-23; 5 Leads; Body 3.0 x 3.0 mm, inc. leads (LxW max))
pins: 1, 2, 3, 4, 5

## SOT23-6(SC74)
designator U?
SOT23-6; 6 Leads; Body 2.9 x 2.5 mm, inc. leads (LxW max)
footprint SOT23-6(SC74) (SOT23-6; 6 Leads; Body 2.9 x 2.5 mm, inc. leads (LxW max))
pins: 1, 2, 3, 4, 5, 6

## SOT23-8
designator U?
SOT23-8, 8 Leads; Body 2.9 x 2.8 mm, inc. leads (LxW max)
footprint SOT23-8 (SOT23-8, 8 Leads; Body 2.9 x 2.8 mm, inc. leads (LxW max))
pins: 1, 2, 3, 4, 5, 6

## SOT32
designator U?
SIP with Mounting Hole; 3 Leads; Body 10.7 x 7.6 x 2.6 mm (typ); Pitch 2.2 mm
footprint SOT32 (SIP with Mounting Hole; 3 Leads; Body 10.7 x 7.6 x 2.6 mm (typ); Pitch 2.2 mm)
footprint SOT32_90 (SIP with Mounting Hole, Horizontal; 3 Leads; Body 10.7 x 7.6 x 2.6 mm (typ); Pitch 2.2 mm)
pins: 1, 2, 3

## SOT54(TO92)
designator U?
TO, Flat Index; 3 In-Line, Axial Leads; Body Dia. 4.8mm; Leads 0.51 x 0.51 mm (max)
footprint SOT54(TO92) (TO, Flat Index; 3 In-Line, Axial Leads; Body Dia. 4.8mm; Leads 0.51 x 0.51 mm (max))
pins: 1, 2, 3

## SOT89
designator U?
SOT89, 3-Leads, Body 4.5x2.4 mm, Pitch 1.5mm, Lead Span 4.1mm, IPC Low Density
footprint SOT89 (SOT89, 3-Leads, Body 4.5x2.4 mm, Pitch 1.5mm, Lead Span 4.1mm, IPC Low Density)
pins: 1, 2, 3

## SOT143
designator U?
SOT-143; 4 Leads; Body 3 x 2.6 mm, inc. leads (LxW max)
footprint SOT143 (SOT-143; 4 Leads; Body 3 x 2.6 mm, inc. leads (LxW max))
pins: 1, 2, 3, 4

## SOT223
designator U?
SOT223, 4-Leads, Body 6.5x3.5mm, Pitch 2.3mm, Lead Span 7mm, IPC Low Density
footprint SOT223(SOT230P700-4M) (SOT223, 4-Leads, Body 6.5x3.5mm, Pitch 2.3mm, Lead Span 7mm, IPC Low Density)
pins: 1, 2, 3, 4

## SOT223-6
designator U?
SOT223, 4-Leads, Body 6.5x3.5mm, Pitch 1.27mm, Lead Span 7mm, IPC Low Density
footprint SOT223-6(SOT127P700-6M) (SOT223, 4-Leads, Body 6.5x3.5mm, Pitch 1.27mm, Lead Span 7mm, IPC Low Density)
pins: 1, 2, 3, 4, 5, 6

## SOT323-6
designator U?
SOT-323; 6 Leads; Body 2.2 x 2.4 mm, inc. leads (LxW max)
footprint SOT323-6 (SOT-323; 6 Leads; Body 2.2 x 2.4 mm, inc. leads (LxW max))
pins: 1, 2, 3, 4, 5, 6

## SOT363-5(SC70-5)
designator U?
SOT-363/SC-88/SC70-5; 5 Leads; Body 2.2 x 1.35 mm
footprint SOT363-5(SC70-5) (SOT-363/SC-88/SC70-5; 5 Leads; Body 2.2 x 1.35 mm)
pins: 1, 2, 3, 4, 5

## SOT363-6(SC70-6)
designator U?
SOT-363/SC-88/SC70-6; 6 Leads; Body 2.2 x 1.35 mm
footprint SOT363-6(SC70-6) (SOT-363/SC-88/SC70-6; 6 Leads; Body 2.2 x 1.35 mm)
pins: 1, 2, 3, 4, 5, 6

## SOT457-6(SC-74/TSOP6)
designator U?
SOT-457/SC-74; 6 Leads; Body 3.1 x 3 mm, inc. leads (LxW max), IPC Low Density
footprint TSOP100P310-6_M (SOT-457/SC-74; 6 Leads; Body 3.1 x 3 mm, inc. leads (LxW max))
pins: 1, 2, 3, 4, 5, 6

## SSOP8
designator U?
Shrink Small Outline, SSOP, 8-Leads, Body 3.15x4.25mm inc. leads (LxW max), Pitch 0.65mm, IPC Low Density
footprint SSOP65P425X130-8_M (Shrink Small Outline, SSOP, 8-Leads, Body 3.15x4.25mm inc. leads (LxW max), Pitch 0.65mm, IPC Low Density)
pins: 1, 2, 3, 4, 5, 6, 7, 8

## SSOP14
designator U?
Shrink Small Outline, SSOP; 14 Leads; Body Width 5.3 mm; Pitch 0.65 mm
footprint SSOP65P780-14 (Shrink Small Outline, SSOP; 14 Leads; Body Width 5.3 mm; Pitch 0.65 mm)
pins: 1, 2, 3, 4, 5, 6, 7, 8, 9, 10, 11, 12, 13, 14

## SSOP16
designator U?
Shrink Small Outline, SSOP; 16 Leads; Body Width 5.3 mm; Pitch 0.65 mm
footprint SSOP65P780-16 (Shrink Small Outline, SSOP; 16 Leads; Body Width 5.3 mm; Pitch 0.65 mm)
pins: 1, 2, 3, 4, 5, 6, 7, 8, 9, 10, 11, 12, 13, 14, 15, 16

## SSOP20
designator U?
Shrink Small Outline, SSOP; 20 Leads; Body Width 5.3 mm; Pitch 0.65 mm
footprint SSOP65P780-20 (Shrink Small Outline, SSOP; 20 Leads; Body Width 5.3 mm; Pitch 0.65 mm)
pins: 1, 2, 3, 4, 5, 6, 7, 8, 9, 10, 11, 12, 13, 14, 15, 16, 17, 18, 19, 20

## SSOP24
designator U?
Shrink Small Outline, SSOP; 24 Leads; Body Width 5.3 mm; Pitch 0.65 mm
footprint SSOP65P780-24 (Shrink Small Outline, SSOP; 24 Leads; Body Width 5.3 mm; Pitch 0.65 mm)
pins: 1, 2, 3, 4, 5, 6, 7, 8, 9, 10, 11, 12, 13, 14, 15, 16, 17, 18, 19, 20, 21, 22, 23, 24

## SSOP28
designator U?
Shrink Small Outline, SSOP; 28 Leads; Body Width 5.3 mm; Pitch 0.65 mm
footprint SSOP65P780-28 (Shrink Small Outline, SSOP; 28 Leads; Body Width 5.3 mm; Pitch 0.65 mm)
pins: 1, 2, 3, 4, 5, 6, 7, 8, 9, 10, 11, 12, 13, 14, 15, 16, 17, 18, 19, 20, 21, 22, 23, 24, 25, 26, 27, 28

## TO18
designator U?
Can; 3 Leads; Pin Circle Dia. 2.54 mm; Lead Dia. 0.49 mm (max)
footprint TO18 (Can; 3 Leads; Pin Circle Dia. 2.54 mm; Lead Dia. 0.49 mm (max))
pins: 1, 2, 3

## TO92-3L
designator U?
TO, Flat Index; 3 In-Line, Axial Leads; Body 4.8x1.5mm (LxW); Leads 0.51 x 0.38 mm (max)
footprint TO92-3L (TO, Flat Index; 3 In-Line, Axial Leads; Body 4.8x1.5mm (LxW); Leads 0.51 x 0.38 mm (max))
pins: 1, 2, 3

## TO99
designator U?
Can; 8 Leads; Pin Circle Dia. 5.08 mm; Lead Dia. 0.51 mm (max)
footprint TO99 (Can; 8 Leads; Pin Circle Dia. 5.08 mm; Lead Dia. 0.51 mm (max))
pins: 1, 2, 3, 4, 5, 6, 7, 8

## TO220
designator U?
TO, Thru-Hole, Heatsink Mounted; 3 In-Line Leads; Pitch 2.54 mm
footprint TO220 (TO, Thru-Hole, Vertical, Heatsink Mounted; 3 In-Line Leads; Pitch 2.54 mm)
footprint TO220_90 (TO, Thru-Hole, Horizontal, Heatsink Mounted; 3 In-Line Leads; Pitch 2.54 mm)
pins: 1, 2, 3

## TO220-7
designator U?
TO, Thru-Hole, Vertical, Heatsink Mounted; 7 In-Line Leads; Pitch 1.27 mm
footprint TO220-7 (TO, Thru-Hole, Vertical, Heatsink Mounted; 7 In-Line Leads; Pitch 1.27 mm)
pins: 1, 2, 3, 4, 5, 6, 7

## TO252(DPAK)
designator U?
D-PAK, 3-Leads, Body 6.1x6.5mm, Pitch 2.285mm, Lead Span 9.7mm, IPC Low Density
footprint TO252-3_M (D-PAK, 4-Leads, Body 6.1x6.5mm, Pitch 2.285mm, Lead Span 9.7mm, IPC Low Density)
pins: 1, 2, 3

## TO263AA(D2PAK-3)
designator U?
TO263AA/D2PAK, 3+1-Leads, Body 10.16x10.4mm, Pitch 2.54mm, Lead Span 15.24mm, IPC Low Density
footprint TO263AA254P1524X465-3+1_M (TO263AA/D2PAK, 3+1-Leads, Body 10.16x10.4mm, Pitch 1.27mm, Lead Span 15.24mm, IPC Low Density)
pins: 1, 2, 3, 4

## TO263AB(D2PAK-2)
designator U?
TO263AA/D2PAK, 2+1-Leads, Body 10.16x10.4mm, Pitch 2.54mm, Lead Span 15.24mm, IPC Low Density
footprint TO263AB254P1524X465-2+1_M (TO263AA/D2PAK, 2+1-Leads, Body 10.16x10.4mm, Pitch 1.27mm, Lead Span 15.24mm, IPC Low Density)
pins: 1, 2, 3

## TO263BA(D2PAK-5)
designator U?
TO263BA/D2PAK, 5+1-Leads, Body 10.16x10.4mm, Pitch 1.7mm, Lead Span 15.24mm, IPC Low Density
footprint TO263BA170P1524X465-5+1_M (TO263BA/D2PAK, 7+1-Leads, Body 10.16x10.4mm, Pitch 1.27mm, Lead Span 15.24mm, IPC Low Density)
pins: 1, 2, 3, 4, 5, 6

## TO263CA(D2PAK-7)
designator U?
TO263CA/D2PAK, 7+1-Leads, Body 10.16x10.4mm, Pitch 1.27mm, Lead Span 15.24mm, IPC Low Density
footprint TO263CA127P1524X465-7+1_M (TO263CA/D2PAK, 7+1-Leads, Body 10.16x10.4mm, Pitch 1.27mm, Lead Span 15.24mm, IPC Low Density)
pins: 1, 2, 3, 4, 5, 6, 7, 8

## TQFP48_7x7_EP
designator U?
TQFP, 48-Leads, Body 7x7mm, Pitch 0.5mm, with exposed pad; IPC Low Density
footprint TQFP48_7x7_EP (TQFP, 48-Leads, Body 7x7mm, Pitch 0.5mm, with exposed pad; IPC Low Density)
pins: 1, 2, 3, 4, 5, 6, 7, 8, 9, 10, 11, 12, 13, 14, 15, 16, 17, 18, 19, 20, 21, 22, 23, 24, 25, 26, 27, 28, 29, 30, 31, 32, 33, 34, 35, 36, 37, 38, 39, 40, 41, 42, 43, 44, 45, 46, 47, 48, EXP

## TQFP48_7x7_EP_HOLE
designator U?
TQFP, 48-Leads, Body 7x7mm, Pitch 0.5mm, with exposed pad,  Hole in exposed pad; IPC Low Density
footprint TQFP48_7x7_EP_HOLE (TQFP, 48-Leads, Body 7x7mm, Pitch 0.5mm, with exposed pad,  Hole in exposed pad; IPC Low Density)
pins: 1, 2, 3, 4, 5, 6, 7, 8, 9, 10, 11, 12, 13, 14, 15, 16, 17, 18, 19, 20, 21, 22, 23, 24, 25, 26, 27, 28, 29, 30, 31, 32, 33, 34, 35, 36, 37, 38, 39, 40, 41, 42, 43, 44, 45, 46, 47, 48, EXP

## TQFP64_14x14
designator U?
TQFP, 64-Leads, Body 14x14mm, Pitch 0,80mm, IPC Low Density
footprint TQFP80P1600X1600X120-64M (TQFP, 64-Leads, Body 16,3x16,3mm (max), Pitch 0,80mm, IPC Low Density)
pins: 1, 2, 3, 4, 5, 6, 7, 8, 9, 10, 11, 12, 13, 14, 15, 16, 17, 18, 19, 20, 21, 22, 23, 24, 25, 26, 27, 28, 29, 30, 31, 32, 33, 34, 35, 36, 37, 38, 39, 40, 41, 42, 43, 44, 45, 46, 47, 48, 49, 50, 51, 52, 53, 54, 55, 56, 57, 58, 59, 60, 61, 62, 63, 64

## TQFP80_12x12
designator U?
Thin QFP, 80-Leads, Body 12x12mm, Pitch 0.5mm, IPC Low Density
footprint TQFP80_12x12 (Thin QFP, 80-Leads, Body 12x12mm, Pitch 0.5mm, IPC Low Density)
pins: 1, 2, 3, 4, 5, 6, 7, 8, 9, 10, 11, 12, 13, 14, 15, 16, 17, 18, 19, 20, 21, 22, 23, 24, 25, 26, 27, 28, 29, 30, 31, 32, 33, 34, 35, 36, 37, 38, 39, 40, 41, 42, 43, 44, 45, 46, 47, 48, 49, 50, 51, 52, 53, 54, 55, 56, 57, 58, 59, 60, 61, 62, 63, 64, 65, 66, 67, 68, 69, 70, 71, 72, 73, 74, 75, 76, 77, 78, 79, 80

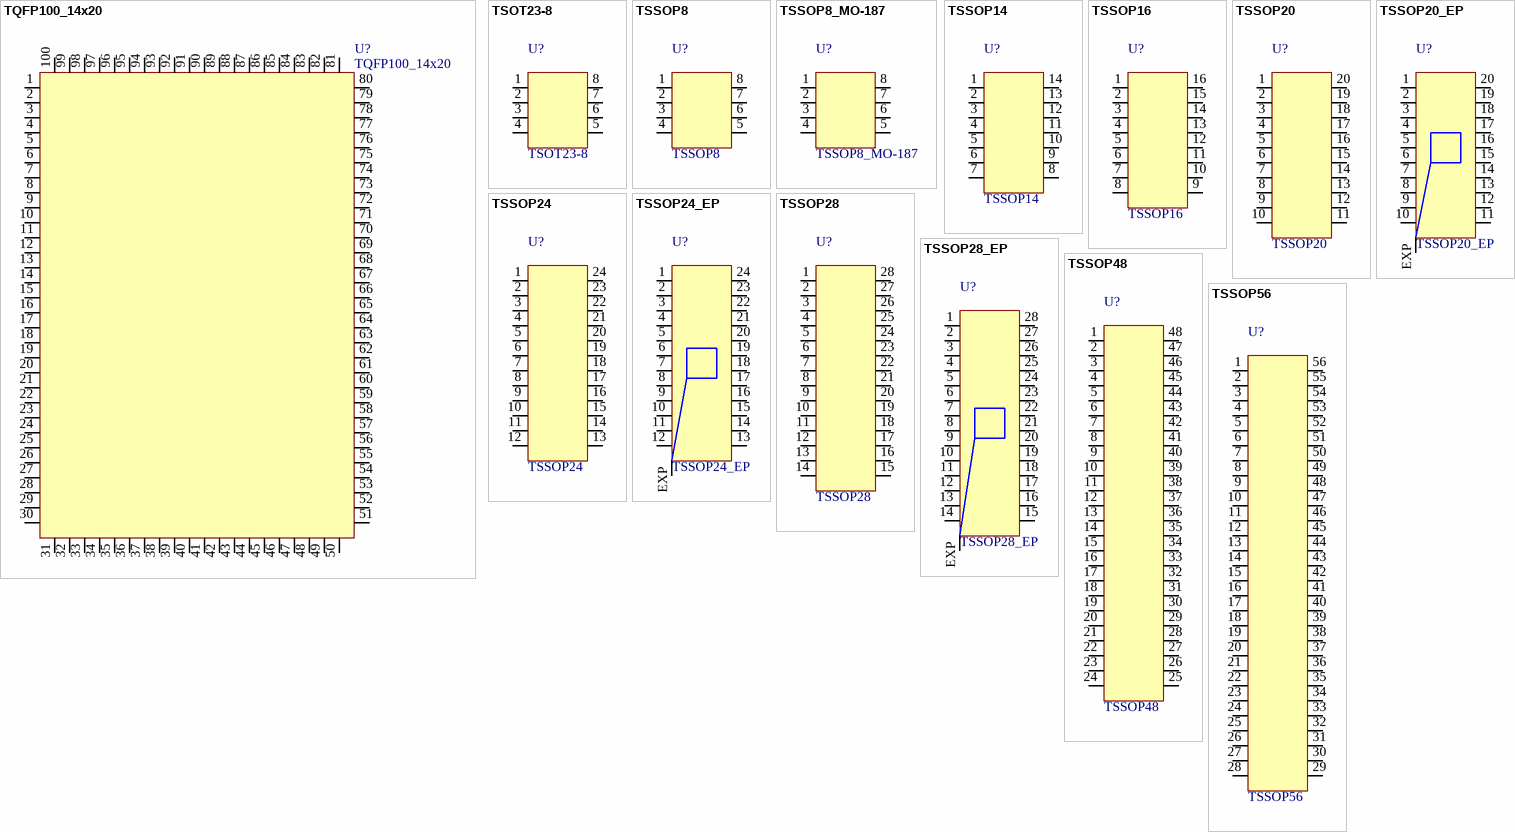
[diagram p3: symbols TQFP100_14x20 to TSSOP56]

## TQFP100_14x20
designator U?
TQFP, 100-Leads, Body 14x20mm, Pitch 0.65mm, IPC Low Density
footprint TQFP100_14x20 (Thin QFP, 100-Leads, Body 20x14mm, Pitch 0.65mm, IPC Low Density)
pins: 1, 2, 3, 4, 5, 6, 7, 8, 9, 10, 11, 12, 13, 14, 15, 16, 17, 18, 19, 20, 21, 22, 23, 24, 25, 26, 27, 28, 29, 30, 31, 32, 33, 34, 35, 36, 37, 38, 39, 40, 41, 42, 43, 44, 45, 46, 47, 48, 49, 50, 51, 52, 53, 54, 55, 56, 57, 58, 59, 60, 61, 62, 63, 64, 65, 66, 67, 68, 69, 70, 71, 72, 73, 74, 75, 76, 77, 78, 79, 80, 81, 82, 83, 84, 85, 86, 87, 88, 89, 90, 91, 92, 93, 94, 95, 96, 97, 98, 99, 100

## TSOT23-8
designator U?
TSOT23, 8-Leads, Body 2.9x2.8mm, Pitch 0.65mm, IPC Low Density
footprint TSOT23-8 (TSOT23, 8-Leads, Body 2.9x2.8mm, Pitch 0.65mm, IPC Low Density)
pins: 1, 2, 3, 4, 5, 6, 7, 8

## TSSOP8
designator U?
Thin Shrink Small Outline, TSSOP; 8 Leads; Body Width 4.4 mm; Pitch 0.65 mm, IPC Low Density
footprint TSSOP65P640-8_M (Thin Shrink Small Outline, TSSOP, 8-Leads, Body 3x4.4mm, Pitch 0.65mm, IPC Low Density)
pins: 1, 2, 3, 4, 5, 6, 7, 8

## TSSOP8_MO-187
designator U?
TSSOP, 8-Leads, Body 2,1x2,4mm (max), Pitch 0,50mm, IPC Low Density
footprint TSSOP50P310X90-8_M (TSSOP, 8-Leads, Body 2,1x2,4mm (max), Pitch 0,50mm, IPC Low Density)
pins: 1, 2, 3, 4, 5, 6, 7, 8

## TSSOP14
designator U?
Thin Shrink Small Outline, TSSOP; 14 Leads; Body Width 4.4 mm; Pitch 0.65 mm, IPC Low Density
footprint TSSOP65P640-14_M (Thin Shrink Small Outline, TSSOP; 14 Leads; Body Width 4.4 mm; Pitch 0.65 mm)
pins: 1, 2, 3, 4, 5, 6, 7, 8, 9, 10, 11, 12, 13, 14

## TSSOP16
designator U?
Thin Shrink Small Outline, TSSOP; 16 Leads; Body Width 4.4 mm; Pitch 0.65 mm, IPC Low Density
footprint TSSOP65P640-16_M (Thin Shrink Small Outline, TSSOP; 16 Leads; Body Width 4.4 mm; Pitch 0.65 mm)
pins: 1, 2, 3, 4, 5, 6, 7, 8, 9, 10, 11, 12, 13, 14, 15, 16

## TSSOP20
designator U?
Thin Shrink Small Outline, TSSOP; 20 Leads; Body Width 4.4 mm; Pitch 0.65 mm, IPC Low Density
footprint TSSOP65P640-20_M (Thin Shrink Small Outline, TSSOP; 20 Leads; Body Width 4.4 mm; Pitch 0.65 mm)
pins: 1, 2, 3, 4, 5, 6, 7, 8, 9, 10, 11, 12, 13, 14, 15, 16, 17, 18, 19, 20

## TSSOP20_EP
designator U?
Thin Shrink Small Outline, TSSOP; 20 Leads; Body Width 4.4 mm; Pitch 0.65 mm, IPC Low Density
footprint TSSOP65P640-20_M_EP (Thin Shrink Small Outline, TSSOP; 20 Leads; Body Width 4.4 mm; Pitch 0.65 mm, with exposed pad, IPC Low Density)
pins: 1, 2, 3, 4, 5, 6, 7, 8, 9, 10, 11, 12, 13, 14, 15, 16, 17, 18, 19, 20, EXP

## TSSOP24
designator U?
Thin Shrink Small Outline, TSSOP; 24 Leads; Body Width 4.4 mm; Pitch 0.65 mm, IPC Low Density
footprint TSSOP65P640-24_M (Thin Shrink Small Outline, TSSOP; 24 Leads; Body Width 4.4 mm; Pitch 0.65 mm, IPC Low Density)
pins: 1, 2, 3, 4, 5, 6, 7, 8, 9, 10, 11, 12, 13, 14, 15, 16, 17, 18, 19, 20, 21, 22, 23, 24

## TSSOP24_EP
designator U?
Thin Shrink Small Outline, TSSOP; 24 Leads; Body Width 4.4 mm; Pitch 0.65 mm, with exposed pad, IPC Low Density
footprint TSSOP65P640-24_M_EP (Thin Shrink Small Outline, TSSOP; 24 Leads; Body Width 4.4 mm; Pitch 0.65 mm, with exposed pad, IPC Low Density)
pins: 1, 2, 3, 4, 5, 6, 7, 8, 9, 10, 11, 12, 13, 14, 15, 16, 17, 18, 19, 20, 21, 22, 23, 24, EXP

## TSSOP28
designator U?
Thin Shrink Small Outline, TSSOP; 28 Leads; Body Width 4.4 mm; Pitch 0.65 mm, IPC Low Density
footprint TSSOP65P640-28_M (Shrink Small Outline, TSSOP; 28 Leads; Body Width 4.4 mm; Pitch 0.65 mm, IPC Low Density)
pins: 1, 2, 3, 4, 5, 6, 7, 8, 9, 10, 11, 12, 13, 14, 15, 16, 17, 18, 19, 20, 21, 22, 23, 24, 25, 26, 27, 28

## TSSOP28_EP
designator U?
Thin Shrink Small Outline, TSSOP; 28 Leads; Body Width 4.4 mm; Pitch 0.65 mm, with exposed pad, IPC Low Density
footprint TSSOP65P640-28_M_EP (Thin Shrink Small Outline, TSSOP; 28 Leads; Body Width 4.4 mm; Pitch 0.65 mm, with exposed pad, IPC Low Density)
pins: 1, 2, 3, 4, 5, 6, 7, 8, 9, 10, 11, 12, 13, 14, 15, 16, 17, 18, 19, 20, 21, 22, 23, 24, 25, 26, 27, 28, EXP

## TSSOP48
designator U?
TSSOP, 48-Leads, Body 12.5x6.1mm, Pitch 0.5mm, IPC Low Density
footprint TSSOP65P640-48_M (TSSOP, 48-Leads, Body 12.5x6.1mm, Pitch 0.5mm, IPC Low Density)
pins: 1, 2, 3, 4, 5, 6, 7, 8, 9, 10, 11, 12, 13, 14, 15, 16, 17, 18, 19, 20, 21, 22, 23, 24, 25, 26, 27, 28, 29, 30, 31, 32, 33, 34, 35, 36, 37, 38, 39, 40, 41, 42, 43, 44, 45, 46, 47, 48

## TSSOP56
designator U?
TSSOP, 56-Leads, Body 14x6.1mm, Pitch 0.5mm, IPC Low Density
footprint TSSOP65P640-56_M (TSSOP, 56-Leads, Body 14x6.1mm, Pitch 0.5mm, IPC Low Density)
pins: 1, 2, 3, 4, 5, 6, 7, 8, 9, 10, 11, 12, 13, 14, 15, 16, 17, 18, 19, 20, 21, 22, 23, 24, 25, 26, 27, 28, 29, 30, 31, 32, 33, 34, 35, 36, 37, 38, 39, 40, 41, 42, 43, 44, 45, 46, 47, 48, 49, 50, 51, 52, 53, 54, 55, 56